# Altium schematic symbol library MPS20N0040D-S.SchLib: 1 symbol
Pins are listed as number, name and electrical type; pins without a type are passive.

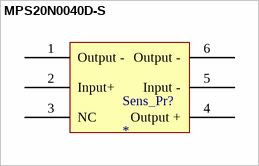
[diagram p0: symbol MPS20N0040D-S]

## MPS20N0040D-S
designator Sens_Pr?
footprint MPS20N0040D-S - duplicate1
pins: 1 Output -, 2 Input+, 3 NC, 4 Output +, 5 Input -, 6 Output -